# Altium schematic symbol library SKY13251.SchLib: 1 symbol
Pins are listed as number, name and electrical type; pins without a type are passive.

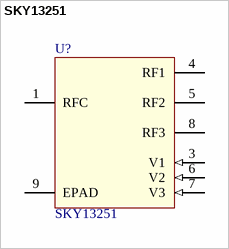
[diagram p0: symbol SKY13251]

## SKY13251
designator U?
The PE42641 is a HaRP™-enhanced SP4T RF switch; Value: SKY13251
footprint QFN-8E-2x2 (QFN, 8-Leads, Body 2.00x2.00mm, Pitch 0.50mm, Thermal Pad 0.58x1.01mm, IPC Medium Density)
pins: 1 RFC "RF Common – Antenna", 3 V1 (in) "Switch control input, CMOS logic level", 4 RF1 "RF Port 1", 5 RF2 "RF Port 2", 6 V2 (in) "Switch control input, CMOS logic level", 7 V3 (in) "Switch control input, CMOS logic level", 8 RF3 "RF Port 3", 9 EPAD (power) "Ground for proper device operation"